# Altium schematic symbol library SCH - POWER - LINEAR VREG - TI TPS73501-Q1DRB.SchLib: 1 symbol
Pins are listed as number, name and electrical type; pins without a type are passive.

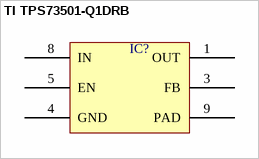
[diagram p0: symbol TI TPS73501-Q1DRB]

## TI TPS73501-Q1DRB
designator IC?  (value not drawn)
pins: 1 OUT, 3 FB, 4 GND, 5 EN, 8 IN, 9 PAD